# Altium integrated library HTSW-104-08-S-S-RA.IntLib: 1 symbol
Pins are listed as number, name and electrical type; pins without a type are passive.

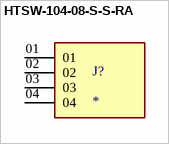
[diagram p0: symbol HTSW-104-08-S-S-RA]

## HTSW-104-08-S-S-RA
designator J?
Connector Header Through Hole, Right Angle 4 position 0.100 (2.54mm); MF: Samtec; MP: HTSW-104-08-S-S-RA; SnapEDA_Link: https://www.snapeda.com/parts/HTSW-104-08-S-S-RA/Samtec/view-part/?ref=snap; Package: None; Value: *; Check_prices: https://www.snapeda.com/parts/HTSW-104-08-S-S-RA/Samtec/view-part/?ref=eda
footprint SAMTEC_HTSW-104-08-S-S-RA
pins: 01, 02, 03, 04